# Altium footprint library 电感封装库.PcbLib: 24 footprints (part 1 of 2)
Each footprint in its own frame and in the unit in brackets; x right, y up, seen from the top. Pads: shape width x height; smd on the part's side, far side on the other; paste and mask are expansions set on the pad; w line width, h text height; cw(c..) or ccw(c..) is an arc to the next point about the centre after c.
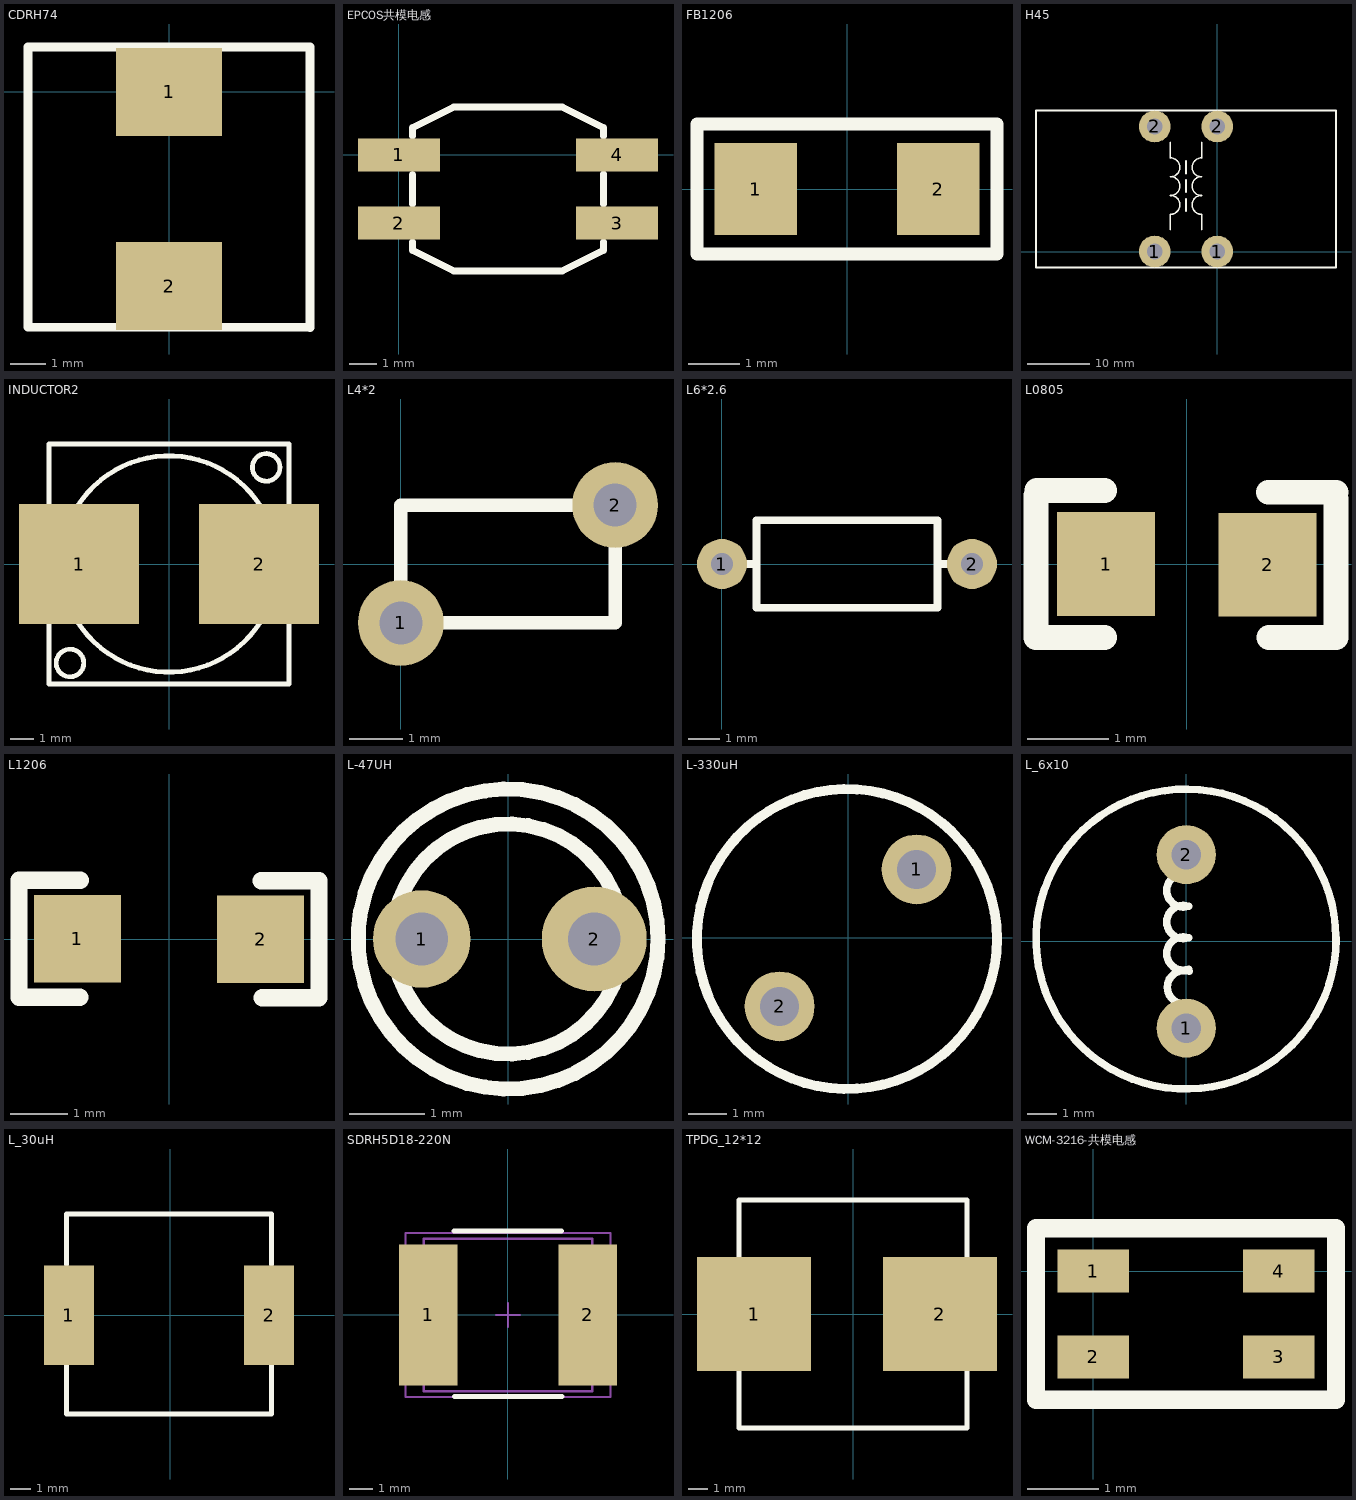
[diagram p0: the footprints below, top view; thin cyan lines are the x and y axes]

## CDRH74 [mm]
height 4
pads (2):
  rect 3x2.5 smd: 1(0,0) 2(0,-5.5)
Top Overlay:
  lines w0.254: -4,-6.667 -4,1.27 0,1.27 4,1.27 4,-6.668 3.999,-6.667 -4,-6.667

## EPCOS共模电感 [mm] "B82793S0513N201"
height 4.9
pads (4):
  rect 3x1.2 smd: 1(0,0) 2(0,-2.5) 3(8,-2.5) 4(8,0)
Top Overlay:
  lines w0.254: 0.5,-3.2 0.5,-3.3 0.5,-3.5 2,-4.25 6,-4.25 7.5,-3.5 7.5,-3.3 7.5,-3.2 ; 0.5,-1.8 0.5,-0.724 ; 0.5,0.7 0.5,1 2,1.75 6,1.75 7.5,1 7.5,0.7 ; 7.5,-1.8 7.5,-0.8 7.5,-0.7
3D body: height 5, standoff -0.15, extent -0.5,-4.25 8.5,1.75

## FB1206 [mm]
pads (2):
  rect 1.6x1.8 smd: 1(-1.778,0) 2(1.778,0)
Top Overlay:
  lines w0.254: -2.921,-1.27 -2.921,1.27 2.921,1.27 2.921,-1.27 -2.921,-1.27
3D body: height 1.1, standoff 0, extent -1.6,-0.8 1.6,0.8

## H45 [mm]
pads (4):
  round 5.08 hole 2.54: 1(-10,0) 1(0,0) 2(-10,20) 2(0,20)
Top Overlay:
  lines w0.254: -7.511,3.48 -7.511,5.969 ; -7.511,5.944 ccw(c-7.511,7.468) -7.511,8.992 ; -7.511,8.941 ccw(c-7.511,10.465) -7.511,11.989 ; -7.511,11.938 ccw(c-7.511,13.462) -7.511,14.986 ; -7.511,14.961 -7.511,17.475 ; -4.996,6.477 -4.996,8.458 ; -4.996,9.474 -4.996,11.455 ; -4.996,12.471 -4.996,14.478 ; -2.507,3.454 -2.507,5.944 cw(c-2.507,7.468) -2.507,8.992 ; -2.507,8.941 cw(c-2.507,10.465) -2.507,11.989 ; -2.507,11.938 cw(c-2.507,13.462) -2.507,14.986 ; -2.507,14.961 -2.507,17.475
  lines w0.305: -29,-2.54 19,-2.54 19,22.54 -29,22.54 -29,-2.54
3D body: height 44.34, standoff -1.96, extent -27.051,-1.397 16.129,21.463

## INDUCTOR2 [mm]
pads (2):
  rect 5.08x5.08 smd: 1(-3.81,0) 2(3.81,0)
Top Overlay:
  circle w0.203: c4.115,4.089 r0.584
  circle w0.203: c-4.191,-4.191 r0.584
  circle w0.203: c0,0 r4.579
  lines w0.203: -5.08,-5.08 -5.08,5.08 5.08,5.08 5.08,-5.08 -5.08,-5.08

## L4*2 [mm]
pads (2):
  round 1.6 hole 0.8: 1(0,-1.1) 2(4,1.1)
Top Overlay:
  lines w0.254: 0,-1.1 4,-1.1 4,1.1 0,1.1 0,-1.1

## L6*2.6 [mm]
pads (2):
  round 1.6 hole 0.7: 1(0,0) 2(8,0)
Top Overlay:
  lines w0.254: 0.3,0 1.1,0 ; 6.9,0 7.7,0 ; 1.1,-1.4 1.1,1.4 6.9,1.4 6.9,-1.4 1.1,-1.4

## L0805 [mm]
pads (2):
  rect 1.2x1.27 smd: 1(-0.99,0.005) 2(0.99,-0.005)
Top Overlay:
  lines w0.305: -1.85,-0.895 -1.85,0.845 ; -1.84,0.905 -1.01,0.905 ; -1.82,-0.895 -1.01,-0.895 ; 1,0.885 1.83,0.885 ; 1.01,-0.895 1.83,-0.895 1.83,0.805
3D body: height 0.78, standoff 0, extent -1,-0.63 1,0.62

## L1206 [mm]
height 1.99
pads (2):
  rect 1.524x1.524 smd: 1(-1.6,0.005) 2(1.6,-0.005)
Top Overlay:
  lines w0.305: -1.56,-1.015 -2.62,-1.015 -2.62,1.025 ; 1.61,1.015 2.62,1.015 2.62,-1.025 1.63,-1.025 ; -2.62,1.025 -1.55,1.025 -2.62,1.025
3D body: height 1, standoff 0, extent -1.58,-0.8 1.62,0.8

## L-47UH [mm]
pads (2):
  round 1.3 hole 0.7: 1(-1.15,0)
  round 1.4 hole 0.7: 2(1.15,0)
Top Overlay:
  circle w0.2: c0,0 r1.534
  circle w0.2: c0,0 r2

## L-330uH [mm]
pads (2):
  round 1.8 hole 1: 1(1.768,1.768) 2(-1.768,-1.768)
Top Overlay:
  circle w0.254: c-0.028,-0.028 r3.869
3D body: height 0.5, standoff 0, extent -3.923,-3.912 3.785,3.811
3D body: height 5.5, standoff 5, extent -3.93,-3.937 3.778,3.786
3D body: height 4.5, standoff 0.5, extent -3.073,-3.023 2.903,2.966
3D body: height 0, standoff -2, extent -2.276,-2.261 -1.28,-1.263
3D body: height 0, standoff -2, extent 1.265,1.279 2.261,2.277

## L_6x10 [mm]
height 1.99
pads (2):
  round 2 hole 1: 1(0,-2.933) 2(0,2.933)
Top Overlay:
  lines w0.254: 0.08,-0.945 cw(c-0.098,-0.411) 0.08,0.122 cw(c-0.098,0.656) 0.08,1.19 cw(c-0.098,1.723) 0.08,2.257 ; 0.1,-2.083 cw(c-0.078,-1.549) 0.1,-1.016 ; 5.06,0.077 cw(c-0.01,0.08) 5.06,0.127
3D body: height 5, standoff 0, extent -0.893,2.081 0.9,3.877
3D body: height 5, standoff 0, extent -0.893,-3.851 0.9,-2.055

## L_30uH [mm]
pads (2):
  rect 2.5x5 smd: 1(-5.08,0) 2(4.953,0)
Top Overlay:
  lines w0.254: -5.207,-2.54 -5.207,-4.953 5.08,-4.953 5.08,-2.54 ; -5.207,2.54 -5.207,5.08 5.08,5.08 5.08,2.54

## SDRH5D18-220N [mm]
pads (2):
  rect 2.5x6 smd: 1(-3.4,0) 2(3.4,0)
Top Overlay:
  lines w0.2: -2.314,3.581 2.286,3.581 ; -2.289,-3.48 2.311,-3.48
Mechanical 13:
  lines w0.1: -3.6,-3.25 -3.6,3.25 3.6,3.25 3.6,-3.25 -3.6,-3.25
Mechanical 15:
  lines w0.1: -0.5,0 0.5,0 ; 0,-0.5 0,0.5 ; -4.375,-3.5 -4.375,3.5 4.375,3.5 4.375,-3.5 -4.375,-3.5
3D body: height 2, standoff 1, extent -3.6,-3.25 3.6,3.25
3D body: height 5, standoff 2, extent -3.023,-2.997 2.954,2.991
3D body: height 6, standoff 5, extent -3.6,-3.25 3.6,3.25
3D body: height 1.5, standoff 0, extent -3.785,-2.997 -3.537,2.972
3D body: height 1.5, standoff 0, extent 3.547,-2.997 3.794,2.972
3D body: height 0.5, standoff 0, extent -3.785,-2.997 -2.997,2.972
3D body: height 0.5, standoff 0, extent 2.972,-2.997 3.759,2.972

## TPDG_12*12 [mm]
pads (2):
  rect 6x6 smd: 1(-5.207,0) 2(4.572,0)
Top Overlay:
  lines w0.254: -6,-6 6,-6 6,6 -6,6 -6,-5.935
3D body: height 6.9, standoff 0.2, extent -6.18,-6.18 6.32,6.32

## WCM-3216-共模电感 [mm] "WCM-3216-共模电感"
height 2
pads (4):
  rect 1x0.6 smd: 1(0,0) 2(0,-1.2) 3(2.6,-1.2) 4(2.6,0)
Top Overlay:
  lines w0.254: -0.8,-1.8 -0.8,0.6 3.4,0.6 3.4,-1.8 -0.8,-1.8